# Altium footprint library PcbLib4.PcbLib: 1 footprints
Each footprint in its own frame and in the unit in brackets; x right, y up, seen from the top. Pads: shape width x height; smd on the part's side, far side on the other; paste and mask are expansions set on the pad; w line width, h text height; cw(c..) or ccw(c..) is an arc to the next point about the centre after c.
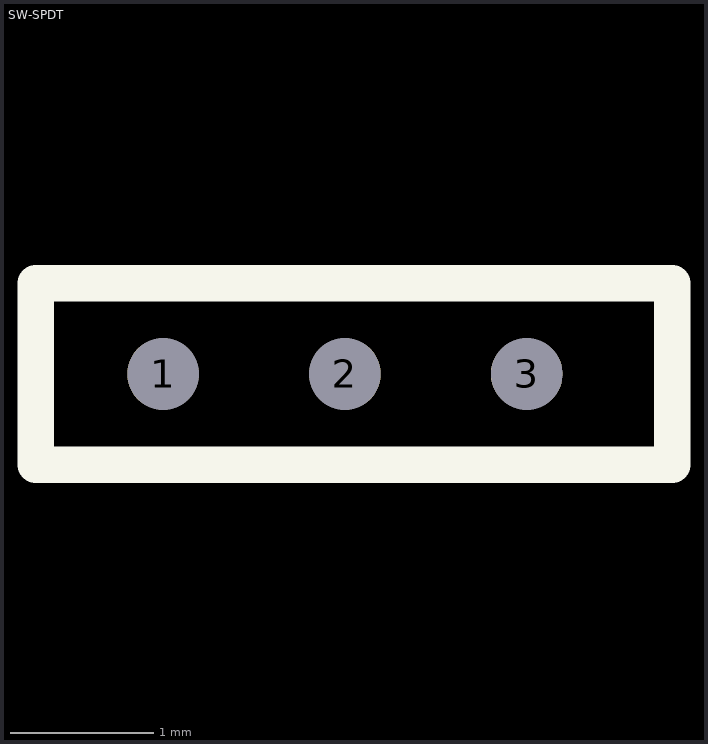
[diagram p0: the footprint, top view; thin cyan lines are the x and y axes]

## SW-SPDT [mm]
height 15
pads (3):
  round 0.5 hole 0.5: 1(-975.106,-894.969) 2(-973.836,-894.969) 3(-972.566,-894.969)
Top Overlay:
  lines w0.254: -975.995,-895.604 -975.995,-894.334 -974.63,-894.334 -972.915,-894.334 -971.55,-894.334 -971.55,-895.604 -975.995,-895.604